# Altium schematic symbol library max485esa.SchLib: 1 symbol
Pins are listed as number, name and electrical type; pins without a type are passive.

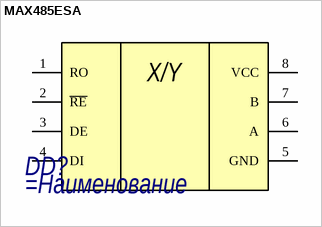
[diagram p0: symbol MAX485ESA]

## MAX485ESA
designator DD?
=Описание
pins: 1 RO, 2 ~{RE}, 3 DE, 4 DI, 5 GND, 6 A, 7 B, 8 VCC
text: X/Y